# Altium footprint library TLP.PcbLib: 2 footprints
Each footprint in its own frame and in the unit in brackets; x right, y up, seen from the top. Pads: shape width x height; smd on the part's side, far side on the other; paste and mask are expansions set on the pad; w line width, h text height; cw(c..) or ccw(c..) is an arc to the next point about the centre after c.
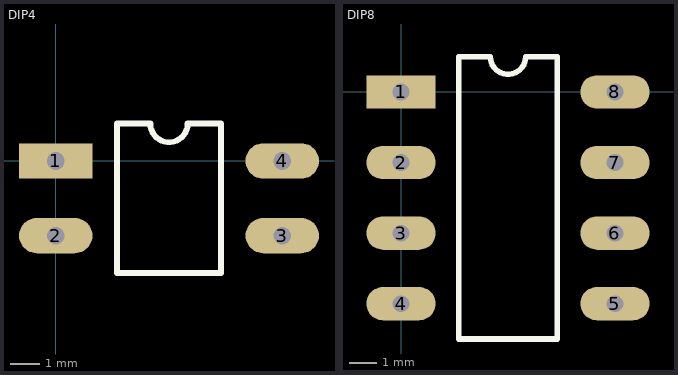
[diagram p0: the footprints below, top view; thin cyan lines are the x and y axes]

## DIP4 [mm]
pads (4):
  rect 2.5x1.2 hole 0.6: 1(0,0)
  oval 2.5x1.2 hole 0.6: 2(0,-2.54) 3(7.7,-2.54) 4(7.7,0)
Top Overlay:
  lines w0.2: 2.085,-3.81 2.085,1.27 3.215,1.27 ccw(c3.85,1.27) 4.485,1.27 5.615,1.27 5.615,-3.81 2.085,-3.81

## DIP8 [mm]
pads (8):
  rect 2.5x1.2 hole 0.6: 1(0,0)
  oval 2.5x1.2 hole 0.6: 2(0,-2.54) 3(0,-5.08) 4(0,-7.62) 5(7.7,-7.62) 6(7.7,-5.08) 7(7.7,-2.54) 8(7.7,0)
Top Overlay:
  lines w0.2: 2.085,-8.89 5.615,-8.89 5.615,1.27 4.485,1.27 cw(c3.85,1.27) 3.215,1.27 2.085,1.27 2.085,-8.89